# EAGLE library part 3310NOJACKANDSIM (library 3310)
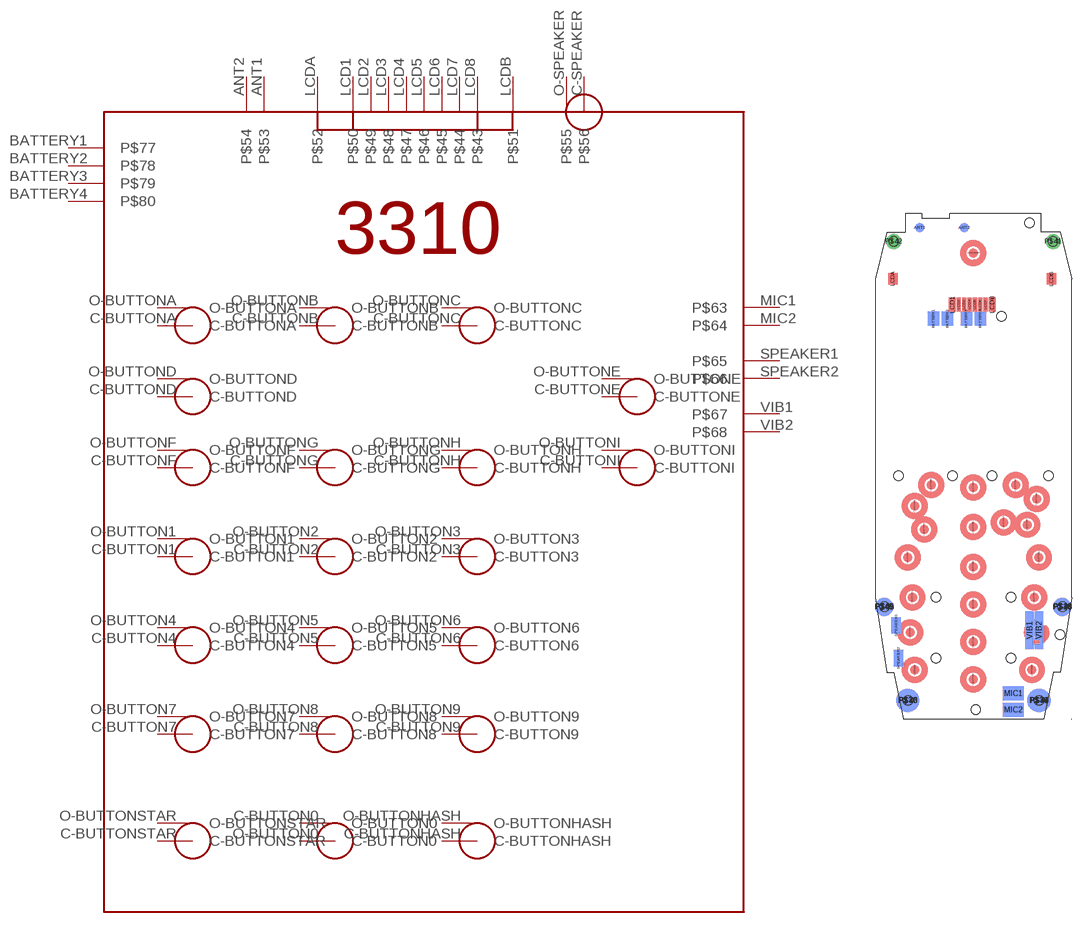
[diagram p2: symbol with the pads of 3310NOJACKANDSIM; footprint 3310NOJACKANDSIM]

Designator prefix -

## 3310NOJACKANDSIM  [3310NOJACKANDSIM]
ANT1  P$53
ANT2  P$54
BATTERY1  P$77
BATTERY2  P$78
BATTERY3  P$79
BATTERY4  P$80
C-BUTTON0  O-BUTTON0
C-BUTTON1  C-BUTTON1
C-BUTTON2  C-BUTTON2
C-BUTTON3  C-BUTTON3
C-BUTTON4  C-BUTTON4
C-BUTTON5  C-BUTTON5
C-BUTTON6  C-BUTTON6
C-BUTTON7  C-BUTTON7
C-BUTTON8  C-BUTTON8
C-BUTTON9  C-BUTTON9
C-BUTTONA  C-BUTTONA
C-BUTTONB  C-BUTTONB
C-BUTTONC  C-BUTTONC
C-BUTTOND  C-BUTTOND
C-BUTTONE  C-BUTTONE
C-BUTTONF  C-BUTTONF
C-BUTTONG  C-BUTTONG
C-BUTTONH  C-BUTTONH
C-BUTTONHASH  C-BUTTONHASH
C-BUTTONI  C-BUTTONI
C-BUTTONSTAR  C-BUTTONSTAR
C-SPEAKER  P$56
LCD1  P$50
LCD2  P$49
LCD3  P$48
LCD4  P$47
LCD5  P$46
LCD6  P$45
LCD7  P$44
LCD8  P$43
LCDA  P$52
LCDB  P$51
MIC1  P$63
MIC2  P$64
O-BUTTON0  C-BUTTON0
O-BUTTON1  O-BUTTON1
O-BUTTON2  O-BUTTON2
O-BUTTON3  O-BUTTON3
O-BUTTON4  O-BUTTON4
O-BUTTON5  O-BUTTON5
O-BUTTON6  O-BUTTON6
O-BUTTON7  O-BUTTON7
O-BUTTON8  O-BUTTON8
O-BUTTON9  O-BUTTON9
O-BUTTONA  O-BUTTONA
O-BUTTONB  O-BUTTONB
O-BUTTONC  O-BUTTONC
O-BUTTOND  O-BUTTOND
O-BUTTONE  O-BUTTONE
O-BUTTONF  O-BUTTONF
O-BUTTONG  O-BUTTONG
O-BUTTONH  O-BUTTONH
O-BUTTONHASH  O-BUTTONHASH
O-BUTTONI  O-BUTTONI
O-BUTTONSTAR  O-BUTTONSTAR
O-SPEAKER  P$55
SPEAKER1  P$65
SPEAKER2  P$66
VIB1  P$67
VIB2  P$68

## Footprint 3310NOJACKANDSIM (pad centres in mm)
smd 2 x 2 bottom: ANT1 9.5,105; ANT2 19,105
smd 2.5 x 3 bottom: BATTERY1 12.5,85.5; BATTERY2 15.5,85.5; BATTERY3 19.5,85.5; BATTERY4 22.5,85.5
smd 2 x 2: C-BUTTON0 21,8.5; C-BUTTON1 7,34.5; C-BUTTON2 21,32.5; C-BUTTON3 35,34.5; C-BUTTON4 8,26; C-BUTTON5 21,24.5; C-BUTTON6 34,26; C-BUTTON7 7.5,18.5; C-BUTTON8 21,16.5; C-BUTTON9 34.5,18.5; C-BUTTONA 12,50; C-BUTTONB 21,49.5; C-BUTTONC 30,50; C-BUTTOND 8.5,45.5; C-BUTTONE 34.5,47; C-BUTTONF 10.5,40.5; C-BUTTONG 21,41; C-BUTTONH 27.5,42; C-BUTTONHASH 33.5,10.5; C-BUTTONI 32.5,41.5; C-BUTTONSTAR 8.5,10.5; C-SPEAKER 21,99.5
smd 1.5 x 3: LCD1 16.5,88.5; LCD8 25,88.5
smd 0.9 x 3: LCD2 17.875,88.5; LCD3 19.025,88.5; LCD4 20.175,88.5; LCD5 21.325,88.5; LCD6 22.45,88.5; LCD7 23.58,88.5
smd 2 x 2.5: LCDA 3.8,94; LCDB 37.7,94
smd 4.5 x 3 bottom: MIC1 29.5,5.5; MIC2 29.5,2
smd 1.27 x 0.635: O-BUTTON0 20.828,6.604; O-BUTTON1 6.858,32.512; O-BUTTON2 20.828,30.48; O-BUTTON3 35.052,32.766; O-BUTTON4 7.874,24.13; O-BUTTON5 21.082,22.606; O-BUTTON6 34.29,24.13; O-BUTTON7 7.112,16.51; O-BUTTON8 20.828,14.732; O-BUTTON9 34.544,16.51; O-BUTTONA 11.938,48.006; O-BUTTONB 21.082,47.498; O-BUTTONC 29.972,47.752; O-BUTTOND 8.382,43.434; O-BUTTONE 34.798,45.212; O-BUTTONF 10.414,38.608; O-BUTTONG 20.828,39.116; O-BUTTONH 27.686,40.132; O-BUTTONHASH 33.274,8.382; O-BUTTONI 32.766,39.37; O-BUTTONSTAR 8.636,8.382; O-SPEAKER 21.59,97.79
smd 4 x 4 bottom: P$18 40,24; P$45 2,24; P$46 40,24; P$69 2,24
drill 2 pad 3.2: P$37 7,4; P$38 35,4; P$39 40,24; P$40 2,24; P$41 38,102; P$42 4,102
smd 5 x 5 bottom: P$43 7,4; P$44 35,4; P$70 7,4; P$71 35,4
smd 2 x 3.5 bottom: SPEAKER1 4.5,20; SPEAKER2 5,13
smd 1.8 x 8 bottom: VIB1 33,19; VIB2 35,19
hole 2 at 27,86
hole 2 at 4,102
hole 2 at 38,102
hole 2 at 5,52
hole 2 at 16.5,52
hole 2 at 25,52
hole 2 at 37,52
hole 2 at 13,26
hole 2 at 29,26
hole 2 at 29,13
hole 2 at 13,13
hole 2 at 7,4
hole 2 at 35,4
hole 2 at 40,24
hole 2 at 2,24
hole 2 at 21.5,2
hole 2 at 39.5,18
hole 2 at 33,106